# Altium schematic symbol library 885012209073.SchLib: 1 symbol
Pins are listed as number, name and electrical type; pins without a type are passive.

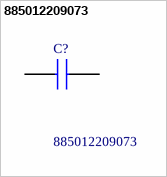
[diagram p0: symbol 885012209073]

## 885012209073
designator C?
Multilayer Ceramic Chip Capacitor WCAP-CSGP Series 1210 60pF X7R1210106K050DFCT10000; Manufacturer_Name: Wurth Elektronik; Geometry.Height: 2.8mm; Mouser Part Number: 710-885012209073; Mouser Price/Stock: https://www.mouser.co.uk/ProductDetail/Wurth-Elektronik/885012209073?qs=sPbYRqrBIVm8PsM2ljQIMg%3D%3D; Manufacturer_Part_Number: 885012209073; Datasheet Link: https://katalog.we-online.com/pbs/datasheet/885012209073.pdf
footprint CAPC3225X280N
pins: 1, 2